# Altium footprint library Main Board.PcbLib: 34 footprints (part 1 of 3)
Each footprint in its own frame and in the unit in brackets; x right, y up, seen from the top. Pads: shape width x height; smd on the part's side, far side on the other; paste and mask are expansions set on the pad; w line width, h text height; cw(c..) or ccw(c..) is an arc to the next point about the centre after c.
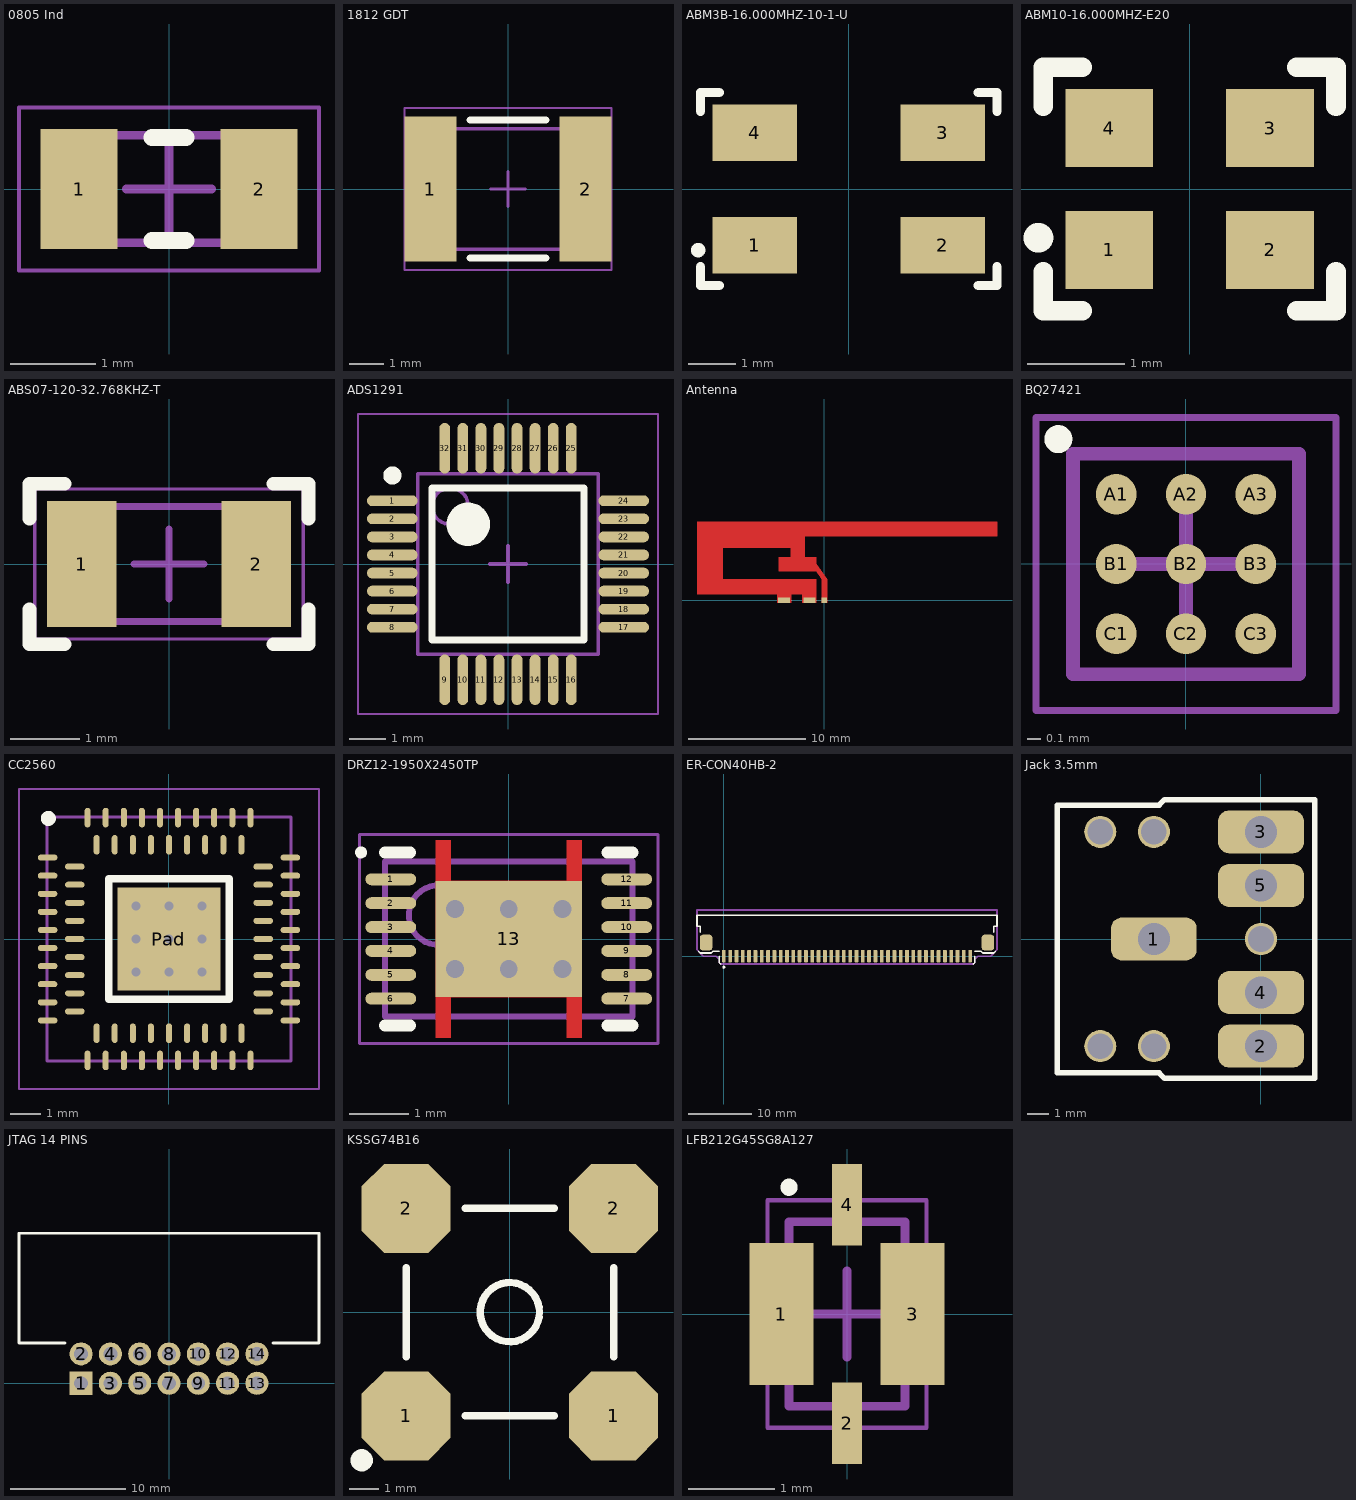
[diagram p0: the footprints below, top view; thin cyan lines are the x and y axes]

## 0805 Ind [mm] "Chip Capacitor, 2-Leads, Body 2,00x1,25mm, IPC Medium Density"
height 0.6
pads (2):
  rect 0.9x1.4 smd: 1(-1.05,0) 2(1.05,0)
Top Overlay:
  lines w0.2: -0.2,-0.6 0.2,-0.6 ; -0.2,0.6 0.2,0.6
Mechanical 13:
  lines w0.1: -1,-0.625 -1,0.625 1,0.625 1,-0.625 -1,-0.625
Mechanical 15:
  lines w0.05: -1.75,-0.95 -1.75,0.95 1.75,0.95 1.75,-0.95 -1.75,-0.95
  lines w0.1: -0.5,0 0.5,0 ; 0,-0.5 0,0.5
3D body: height 0.95, standoff 0, extent -1,-0.6 1,0.6

## 1812 GDT [mm] "GDT SMD"
height 3
pads (2):
  rect 1.5x4.2 smd: 1(-2.25,0) 2(2.25,0)
Top Overlay:
  lines w0.2: -1.1,-2 1.1,-2 ; -1.1,2 1.1,2
Mechanical 13:
  lines w0.1: -2.4,-1.75 2.4,-1.75 2.4,1.75 -2.4,1.75 -2.4,-1.75
Mechanical 15:
  lines w0.05: -3,-2.35 3,-2.35 3,2.35 -3,2.35 -3,-2.35
  lines w0.1: -0.5,0 0.5,0 ; 0,-0.5 0,0.5
3D body: height 3, standoff 0, extent 1.9,-1.75 2.4,1.75
3D body: height 3, standoff 0, extent -2.4,-1.75 -1.9,1.75
3D body: height 3, standoff 0, extent -1.9,-1.75 1.9,1.75

## ABM3B-16.000MHZ-10-1-U [mm] "Crystal 16 MHz"
height 1.1
pads (4):
  rect 1.8x1.2 smd: 1(-2,-1.2) 2(2,-1.2) 3(2,1.2) 4(-2,1.2)
Top Overlay:
  circle w0.254: c-3.2,-1.3 r0.025
  lines w0.2: -3.15,-1.65 -3.15,-2.05 -2.75,-2.05 ; -3.15,1.65 -3.15,2.05 -2.75,2.05 ; 2.75,-2.05 3.15,-2.05 3.15,-1.65 ; 2.75,2.05 3.15,2.05 3.15,1.65
3D body: height 0.8, standoff 0, extent -2.5,-1.6 2.5,1.6
3D body: height 1.1, standoff 0.8, extent -2.4,-1.5 2.4,1.5

## ABM10-16.000MHZ-E20 [mm] "Crystal 16 MHz"
height 1.1
pads (4):
  rect 0.9x0.8 smd: 1(-0.825,-0.625) 2(0.825,-0.625) 3(0.825,0.625) 4(-0.825,0.625)
Top Overlay:
  circle w0.254: c-1.55,-0.5 r0.025
  lines w0.2: -1.5,-0.85 -1.5,-1.25 -1.1,-1.25 ; -1.5,0.85 -1.5,1.25 -1.1,1.25 ; 1.1,-1.25 1.5,-1.25 1.5,-0.85 ; 1.1,1.25 1.5,1.25 1.5,0.85
3D body: height 0.5, standoff 0.3, extent -1.2,-0.95 1.2,0.95
3D body: height 0.3, standoff 0, extent -1.25,-1 1.25,1

## ABS07-120-32.768KHZ-T [mm] "DFN, 2-Leads, Body 1,50x3,20mm, Pitch 2,45mm, IPC Medium Density"
height 0.9
pads (2):
  rect 1x1.8 smd: 1(-1.25,0) 2(1.25,0)
Top Overlay:
  lines w0.2: -2,-0.65 -2,-1.15 -1.5,-1.15 ; -2,0.65 -2,1.15 -1.5,1.15 ; 1.5,-1.15 2,-1.15 2,-0.65 ; 1.5,1.15 2,1.15 2,0.65
Mechanical 13:
  lines w0.1: -1.675,-0.825 1.675,-0.825 1.675,0.825 -1.675,0.825 -1.675,-0.825
Mechanical 15:
  lines w0.05: -1.925,-1.075 1.925,-1.075 1.925,1.075 -1.925,1.075 -1.925,-1.075
  lines w0.1: -0.5,0 0.5,0 ; 0,-0.5 0,0.5
3D body: height 0.9, standoff 0, extent -1.675,-0.825 1.675,0.825

## ADS1291 [mm] "TSQFP, 32-Leads, Body 5,00x5,00mm, Pitch 0,50mm, IPC Medium Density"
height 1.2
pads (32):
  oval 1.4x0.3 smd: 1(-3.2,1.75) 2(-3.2,1.25) 3(-3.2,0.75) 4(-3.2,0.25) 5(-3.2,-0.25) 6(-3.2,-0.75) 7(-3.2,-1.25) 8(-3.2,-1.75) 17(3.2,-1.75) 18(3.2,-1.25) 19(3.2,-0.75) 20(3.2,-0.25) 21(3.2,0.25) 22(3.2,0.75) 23(3.2,1.25) 24(3.2,1.75)
  oval 0.3x1.4 smd: 9(-1.75,-3.2) 10(-1.25,-3.2) 11(-0.75,-3.2) 12(-0.25,-3.2) 13(0.25,-3.2) 14(0.75,-3.2) 15(1.25,-3.2) 16(1.75,-3.2) 25(1.75,3.2) 26(1.25,3.2) 27(0.75,3.2) 28(0.25,3.2) 29(-0.25,3.2) 30(-0.75,3.2) 31(-1.25,3.2) 32(-1.75,3.2)
Top Overlay:
  circle w0.6: c-1.1,1.1 r0.3
  circle w0.25: c-3.2,2.45 r0.125
  lines w0.2: -2.1,-2.1 2.1,-2.1 2.1,2.1 -2.1,2.1 -2.1,-2.1
Mechanical 13:
  circle w0.1: c-1.6,1.6 r0.5
  lines w0.1: -2.5,-2.5 2.5,-2.5 2.5,2.5 -2.5,2.5 -2.5,-2.5
Mechanical 15:
  lines w0.05: -4.15,-4.15 4.15,-4.15 4.15,4.15 -4.15,4.15 -4.15,-4.15
  lines w0.1: -0.5,0 0.5,0 ; 0,-0.5 0,0.5
3D body: height 1.2, standoff 0.25, extent -2.5,-2.5 2.5,2.5

## Antenna [mm] "2.4 GHz F-antenna"
pads (3):
  rect 0.46x0.46 smd paste-1: 1(0,0)
  rect 1x0.46 smd paste-1: 2(-3.45,0) 2(-1.275,0)
Top Layer:
  region: -10.86,0.505 -10.86,6.675 14.72,6.675 14.72,5.465 -1.68,5.465 -1.68,3.665 -0.68,3.665 -0.68,3.125 0.23,1.795 0.23,-0.235 -0.23,-0.235 -0.23,1.795 -0.68,2.455 -3.88,2.455 -3.88,3.665 -2.88,3.665 -2.88,4.465 -8.68,4.465 -8.68,1.795 -0.68,1.795 -0.68,-0.235 -1.878,-0.235 -1.878,0.505 -2.841,0.505 -2.841,-0.235 -4.027,-0.235 -4.027,0.505

## BATT [mm]
height 6
3D body: height 6, standoff 0, extent -17,0 17,42
3D body: height 6, standoff 0, extent -17,42 17,50

## BQ27421 [mm] "BGA, 9-Leads, Body 1,62x1,58mmx0,63mm, Pitch 0,50mm"
height 0.63
pads (9):
  round 0.29 smd mask+0.05: A1(-0.5,0.5) A2(0,0.5) A3(0.5,0.5) B1(-0.5,0) B2(0,0) B3(0.5,0) C1(-0.5,-0.5) C2(0,-0.5) C3(0.5,-0.5)
Top Overlay:
  circle w0.1: c-0.915,0.895 r0.05
Mechanical 13:
  lines w0.1: -0.81,-0.79 0.81,-0.79 0.81,0.79 -0.81,0.79 -0.81,-0.79
Mechanical 15:
  lines w0.05: -1.075,-1.05 1.075,-1.05 1.075,1.05 -1.075,1.05 -1.075,-1.05
  lines w0.1: -0.5,0 0.5,0 ; 0,-0.5 0,0.5
3D body: height 0.63, standoff 0.35, extent -0.81,-0.79 0.81,0.79

## CC2560 [mm] "Double Row QFN, 76-Leads, Body 8,00x8,00mm, Pitch 0,60mm, Thermal Pad 3,40x3,40mm, IPC Low Density"
height 0.9
pads (77):
  oval 0.65x0.2 smd mask+0.07: A1(-4.025,2.7) A2(-4.025,2.1) A3(-4.025,1.5) A4(-4.025,0.9) A5(-4.025,0.3) A6(-4.025,-0.3) A7(-4.025,-0.9) A8(-4.025,-1.5) A9(-4.025,-2.1) A10(-4.025,-2.7) A21(4.025,-2.7) A22(4.025,-2.1) A23(4.025,-1.5) A24(4.025,-0.9) A25(4.025,-0.3) A26(4.025,0.3) A27(4.025,0.9) A28(4.025,1.5) A29(4.025,2.1) A30(4.025,2.7) B1(-3.125,2.4) B2(-3.125,1.8) B3(-3.125,1.2) B4(-3.125,0.6) B5(-3.125,0) B6(-3.125,-0.6) B7(-3.125,-1.2) B8(-3.125,-1.8) B9(-3.125,-2.4) B19(3.125,-2.4) B20(3.125,-1.8) B21(3.125,-1.2) B22(3.125,-0.6) B23(3.125,0) B24(3.125,0.6) B25(3.125,1.2) B26(3.125,1.8) B27(3.125,2.4)
  oval 0.2x0.65 smd mask+0.07: A11(-2.7,-4.025) A12(-2.1,-4.025) A13(-1.5,-4.025) A14(-0.9,-4.025) A15(-0.3,-4.025) A16(0.3,-4.025) A17(0.9,-4.025) A18(1.5,-4.025) A19(2.1,-4.025) A20(2.7,-4.025) A31(2.7,4.025) A32(2.1,4.025) A33(1.5,4.025) A34(0.9,4.025) A35(0.3,4.025) A36(-0.3,4.025) A37(-0.9,4.025) A38(-1.5,4.025) A39(-2.1,4.025) A40(-2.7,4.025) B10(-2.4,-3.125) B11(-1.8,-3.125) B12(-1.2,-3.125) B13(-0.6,-3.125) B14(0,-3.125) B15(0.6,-3.125) B16(1.2,-3.125) B17(1.8,-3.125) B18(2.4,-3.125) B28(2.4,3.125) B29(1.8,3.125) B30(1.2,3.125) B31(0.6,3.125) B32(0,3.125) B33(-0.6,3.125) B34(-1.2,3.125) B35(-1.8,3.125) B36(-2.4,3.125)
  rect 3.4x3.4 smd mask+0.07: Pad(0,0)
via 1.1,1.1 diameter 0.5 hole 0.3
via 0,1.1 diameter 0.5 hole 0.3
via -1.1,1.1 diameter 0.5 hole 0.3
via 1.1,0 diameter 0.5 hole 0.3
via 0,0 diameter 0.5 hole 0.3
via -1.1,0 diameter 0.5 hole 0.3
via 1.1,-1.1 diameter 0.5 hole 0.3
via 0,-1.1 diameter 0.5 hole 0.3
via -1.1,-1.1 diameter 0.5 hole 0.3
Top Overlay:
  circle w0.25: c-4,4 r0.125
  lines w0.25: -2,-2 -2,2 2,2 2,-2 -2,-2
Mechanical 13:
  lines w0.1: -4.05,-4.05 -4.05,4.05 4.05,4.05 4.05,-4.05 -4.05,-4.05
Mechanical 15:
  lines w0.05: -4.975,-4.975 -4.975,4.975 4.975,4.975 4.975,-4.975 -4.975,-4.975
  lines w0.1: -0.5,0 0.5,0 ; 0,-0.5 0,0.5
3D body: height 0.9, standoff 0, extent -4.05,-4.05 4.05,4.05

## DRZ12-1950X2450TP [mm] "SON, 12-Leads, Body 4x2.5mm, Pitch 0.4mm, Thermal Pad 1.95x2.45mm, TI Recommended"
height 1
pads (13):
  oval 0.85x0.2 smd paste-0.1 mask+0.05: 1(-1.975,1) 2(-1.975,0.6) 3(-1.975,0.2) 4(-1.975,-0.2) 5(-1.975,-0.6) 6(-1.975,-1) 7(1.975,-1) 8(1.975,-0.6) 9(1.975,-0.2) 10(1.975,0.2) 11(1.975,0.6) 12(1.975,1)
  rect 2.45x1.95 smd paste-0.975 mask+0.05: 13(0,0)
via 0,-0.5 diameter 0.5 hole 0.3
via -0.9,-0.5 diameter 0.5 hole 0.3
via 0,0.5 diameter 0.5 hole 0.3
via -0.9,0.5 diameter 0.5 hole 0.3
via 0.9,0.5 diameter 0.5 hole 0.3
via 0.9,-0.5 diameter 0.5 hole 0.3
Top Layer:
  region: -1.225,-1.65 -1.225,1.65 -0.975,1.65 -0.975,0.975 0.975,0.975 0.975,1.65 1.225,1.65 1.225,-1.65 0.975,-1.65 0.975,-0.975 -0.975,-0.975 -0.975,-1.65
Top Overlay:
  circle w0.1: c-2.475,1.45 r0.05
  lines w0.2: -2.075,-1.45 -1.65,-1.45 ; -2.075,1.45 -1.65,1.45 ; 1.65,-1.45 2.075,-1.45 ; 1.65,1.45 2.075,1.45
Top Paste:
  region: 1.225,1.625 0.975,1.625 0.975,1.1 1.225,1.1
  region: 1.225,-1.1 0.975,-1.1 0.975,-1.625 1.225,-1.625
  rectangle: -1.225,-1.625 -0.975,-1.1
  rectangle: -1.225,1.1 -0.975,1.625
  rectangle: -1.1,-0.9 -0.1,-0.1
  region: 1.1,-0.1 0.1,-0.1 0.1,-0.9 1.1,-0.9
  region: 1.1,0.9 0.1,0.9 0.1,0.1 1.1,0.1
  rectangle: -1.1,0.1 -0.1,0.9
  lines w0.2: -2.275,-1 -1.675,-1 ; -2.275,-0.6 -1.675,-0.6 ; -2.275,-0.2 -1.675,-0.2 ; -2.275,0.2 -1.675,0.2 ; -2.275,0.6 -1.675,0.6 ; -2.275,1 -1.675,1 ; 1.675,-1 2.275,-1 ; 1.675,-0.6 2.275,-0.6 ; 1.675,-0.2 2.275,-0.2 ; 1.675,0.2 2.275,0.2 ; 1.675,0.6 2.275,0.6 ; 1.675,1 2.275,1
Mechanical 13:
  circle w0.1: c-1.175,0.4 r0.5
  lines w0.1: -2.075,-1.3 2.075,-1.3 2.075,1.3 -2.075,1.3 -2.075,-1.3
Mechanical 15:
  lines w0.05: -2.5,-1.75 2.5,-1.75 2.5,1.75 -2.5,1.75 -2.5,-1.75
  lines w0.1: -0.5,0 0.5,0 ; 0,-0.5 0,0.5
3D body: height 1, standoff -0.05, extent -2.075,-1.3 2.075,1.3

## ER-CON40HB-2 [mm] "40 Pins 1.0 mm Pitch SMD Horizontal Type ZIF Connector"
height 2.5
pads (42):
  rrect50% 0.6x2 smd: 1(0,0) 2(1,0) 3(2,0) 4(3,0) 5(4,0) 6(5,0) 7(6,0) 8(7,0) 9(8,0) 10(9,0) 11(10,0) 12(11,0) 13(12,0) 14(13,0) 15(14,0) 16(15,0) 17(16,0) 18(17,0) 19(18,0) 20(19,0) 21(20,0) 22(21,0) 23(22,0) 24(23,0) 25(24,0) 26(25,0) 27(26,0) 28(27,0) 29(28,0) 30(29,0) 31(30,0) 32(31,0) 33(32,0) 34(33,0) 35(34,0) 36(35,0) 37(36,0) 38(37,0) 39(38,0) 40(39,0)
  rrect50% 2x2.5 smd: ""(-2.8,2.15) ""(41.8,2.15)
Top Overlay:
  circle w0.25: c0,-1.75 r0.125
  lines w0.25: -4,0.75 -3.75,0.5 -2,0.5 -1.75,0.75 -0.75,0.75 ; -3.75,3.75 -3.75,4.75 -4.25,4.75 -4.25,6.5 43.25,6.5 43.25,4.75 42.75,4.75 42.75,3.75 ; -0.75,0 -0.75,-1 -0.5,-1.25 ; 39.5,-1.25 39.75,-1 39.75,0 ; 39.75,0.75 40.75,0.75 41,0.5 42.75,0.5 43,0.75
Mechanical 15:
  lines w0.25: -4.25,1 -4.25,7.3 43.25,7.3 43.25,1 42.25,0 40.25,0 39.75,-0.5 39.75,-1 39.5,-1.25 19.5,-1.25 -0.5,-1.25 -0.75,-1 -0.75,-0.5 -1.25,0 -3.25,0 -4.25,1
3D body: height 0.75, standoff 0.5, extent 38.85,0.6 39.15,1
3D body: height 0.75, standoff 0.5, extent 37.85,0.6 38.15,1
3D body: height 0.75, standoff 0.5, extent 36.85,0.6 37.15,1
3D body: height 0.75, standoff 0.5, extent 35.85,0.6 36.15,1
3D body: height 0.75, standoff 0.5, extent 34.85,0.6 35.15,1
3D body: height 0.75, standoff 0.5, extent 33.85,0.6 34.15,1
3D body: height 0.75, standoff 0.5, extent 32.85,0.6 33.15,1
3D body: height 0.75, standoff 0.5, extent 31.85,0.6 32.15,1
3D body: height 0.75, standoff 0.5, extent 30.85,0.6 31.15,1
3D body: height 0.75, standoff 0.5, extent 29.85,0.6 30.15,1
3D body: height 0.75, standoff 0.5, extent 28.85,0.6 29.15,1
3D body: height 0.75, standoff 0.5, extent 27.85,0.6 28.15,1
3D body: height 0.75, standoff 0.5, extent 26.85,0.6 27.15,1
3D body: height 0.75, standoff 0.5, extent 25.85,0.6 26.15,1
3D body: height 0.75, standoff 0.5, extent 24.85,0.6 25.15,1
3D body: height 0.75, standoff 0.5, extent 23.85,0.6 24.15,1
3D body: height 0.75, standoff 0.5, extent 22.85,0.6 23.15,1
3D body: height 0.75, standoff 0.5, extent 21.85,0.6 22.15,1
3D body: height 0.75, standoff 0.5, extent 20.85,0.6 21.15,1
3D body: height 0.75, standoff 0.5, extent 19.85,0.6 20.15,1
3D body: height 0.75, standoff 0.5, extent 18.85,0.6 19.15,1
3D body: height 0.75, standoff 0.5, extent 17.85,0.6 18.15,1
3D body: height 0.75, standoff 0.5, extent 16.85,0.6 17.15,1
3D body: height 0.75, standoff 0.5, extent 15.85,0.6 16.15,1
3D body: height 0.75, standoff 0.5, extent 14.85,0.6 15.15,1
3D body: height 0.75, standoff 0.5, extent 13.85,0.6 14.15,1
3D body: height 0.75, standoff 0.5, extent 12.85,0.6 13.15,1
3D body: height 0.75, standoff 0.5, extent 11.85,0.6 12.15,1
3D body: height 0.75, standoff 0.5, extent 10.85,0.6 11.15,1
3D body: height 0.75, standoff 0.5, extent 9.85,0.6 10.15,1
3D body: height 0.75, standoff 0.5, extent 8.85,0.6 9.15,1
3D body: height 0.75, standoff 0.5, extent 7.85,0.6 8.15,1
3D body: height 0.75, standoff 0.5, extent 6.85,0.6 7.15,1
3D body: height 0.75, standoff 0.5, extent 5.85,0.6 6.15,1
3D body: height 0.75, standoff 0.5, extent 4.85,0.6 5.15,1
3D body: height 0.75, standoff 0.5, extent 3.85,0.6 4.15,1
3D body: height 0.75, standoff 0.5, extent 2.85,0.6 3.15,1
3D body: height 0.75, standoff 0.5, extent 1.85,0.6 2.15,1
3D body: height 0.75, standoff 0.5, extent 0.85,0.6 1.15,1
3D body: height 2.5, standoff 1.25, extent -1,5 40,6.3
3D body: height 0.5, standoff 0, extent -1,5 40,6.3
3D body: height 0.5, standoff 0, extent 38.85,-0.5 39.15,1
3D body: height 0.5, standoff 0, extent 37.85,-0.5 38.15,1
3D body: height 0.5, standoff 0, extent 36.85,-0.5 37.15,1
3D body: height 0.5, standoff 0, extent 35.85,-0.5 36.15,1
3D body: height 0.5, standoff 0, extent 34.85,-0.5 35.15,1
3D body: height 0.5, standoff 0, extent 33.85,-0.5 34.15,1
3D body: height 0.5, standoff 0, extent 32.85,-0.5 33.15,1
3D body: height 0.5, standoff 0, extent 31.85,-0.5 32.15,1
3D body: height 0.5, standoff 0, extent 30.85,-0.5 31.15,1
3D body: height 0.5, standoff 0, extent 29.85,-0.5 30.15,1
3D body: height 0.5, standoff 0, extent 28.85,-0.5 29.15,1
3D body: height 0.5, standoff 0, extent 27.85,-0.5 28.15,1
3D body: height 0.5, standoff 0, extent 26.85,-0.5 27.15,1
3D body: height 0.5, standoff 0, extent 25.85,-0.5 26.15,1
3D body: height 0.5, standoff 0, extent 24.85,-0.5 25.15,1
3D body: height 0.5, standoff 0, extent 23.85,-0.5 24.15,1
3D body: height 0.5, standoff 0, extent 22.85,-0.5 23.15,1
3D body: height 0.5, standoff 0, extent 21.85,-0.5 22.15,1
3D body: height 0.5, standoff 0, extent 20.85,-0.5 21.15,1
3D body: height 0.5, standoff 0, extent 19.85,-0.5 20.15,1
3D body: height 0.5, standoff 0, extent 18.85,-0.5 19.15,1
3D body: height 0.5, standoff 0, extent 17.85,-0.5 18.15,1
3D body: height 0.5, standoff 0, extent 16.85,-0.5 17.15,1
3D body: height 0.5, standoff 0, extent 15.85,-0.5 16.15,1
3D body: height 0.5, standoff 0, extent 14.85,-0.5 15.15,1
3D body: height 0.5, standoff 0, extent 13.85,-0.5 14.15,1
3D body: height 0.5, standoff 0, extent 12.85,-0.5 13.15,1
3D body: height 0.5, standoff 0, extent 11.85,-0.5 12.15,1
3D body: height 0.5, standoff 0, extent 10.85,-0.5 11.15,1
3D body: height 0.5, standoff 0, extent 9.85,-0.5 10.15,1
3D body: height 0.5, standoff 0, extent 8.85,-0.5 9.15,1
3D body: height 0.5, standoff 0, extent 7.85,-0.5 8.15,1
3D body: height 0.5, standoff 0, extent 6.85,-0.5 7.15,1
3D body: height 0.5, standoff 0, extent 5.85,-0.5 6.15,1
3D body: height 0.5, standoff 0, extent 4.85,-0.5 5.15,1
3D body: height 0.5, standoff 0, extent 3.85,-0.5 4.15,1
3D body: height 0.5, standoff 0, extent 2.85,-0.5 3.15,1
3D body: height 0.5, standoff 0, extent 1.85,-0.5 2.15,1
3D body: height 0.5, standoff 0, extent 0.85,-0.5 1.15,1
3D body: height 0.5, standoff 0, extent -0.15,-0.5 0.15,1
3D body: height 2.5, standoff 0.15, extent -3.505,0.995 42.505,5
3D body: height 2.5, standoff 0, extent -4,5 -1,6.3
3D body: height 2.5, standoff 0, extent 40,5 43,6.3
3D body: height 0.75, standoff 0.5, extent -0.15,0.6 0.15,1
3D body: height 0.15, standoff 0, extent -3.755,1.245 -2,3.25
3D body: height 0.15, standoff 0, extent 41,1.245 42.755,3.25

## Jack 3.5mm [mm]
pads (10):
  rrect50% 4x2 hole 1.5: 1(-5,0) 2(0,-5) 3(0,5) 4(0,-2.5) 5(0,2.5)
  round 1.5 hole 1.2 unplated: ""(-7.5,-5) ""(-7.5,5) ""(-5,-5) ""(-5,5) ""(0,0)
Top Overlay:
  lines w0.254: -9.5,-6.25 -4.75,-6.25 -4.5,-6.5 2.5,-6.5 2.5,6.5 -4.5,6.5 -4.75,6.25 -7.25,6.25 -9.5,6.25 -9.5,4.5 -9.5,-4.5 -9.5,-6.25

## JTAG 14 PINS [mm] "7X2 PIN Header 90º JTAG"
height 9.1
pads (14):
  rect 2x2 hole 1.2: 1(-7.62,0)
  round 2 hole 1.2: 2(-7.62,2.54) 3(-5.08,0) 4(-5.08,2.54) 5(-2.54,0) 6(-2.54,2.54) 7(0,0) 8(0,2.54) 9(2.54,0) 10(2.54,2.54) 11(5.08,0) 12(5.08,2.54) 13(7.62,0) 14(7.62,2.54)
Top Overlay:
  lines w0.25: -9,3.5 -13,3.5 -13,13 13,13 13,3.5 9,3.5
3D body: height 5.75, standoff 5.25, extent 7.37,-0.25 7.87,11.29
3D body: height 3.25, standoff 2.75, extent 7.37,2.29 7.87,11.29
3D body: height 3.25, standoff -3, extent 7.37,2.29 7.87,2.79
3D body: height 5.75, standoff -3, extent 7.37,-0.25 7.87,0.25
3D body: height 5.75, standoff 5.25, extent 4.83,-0.25 5.33,11.29
3D body: height 3.25, standoff 2.75, extent 4.83,2.29 5.33,11.29
3D body: height 3.25, standoff -3, extent 4.83,2.29 5.33,2.79
3D body: height 5.75, standoff -3, extent 4.83,-0.25 5.33,0.25
3D body: height 5.75, standoff 5.25, extent 2.29,-0.25 2.79,11.29
3D body: height 3.25, standoff 2.75, extent 2.29,2.29 2.79,11.29
3D body: height 3.25, standoff -3, extent 2.29,2.29 2.79,2.79
3D body: height 5.75, standoff -3, extent 2.29,-0.25 2.79,0.25
3D body: height 5.75, standoff 5.25, extent -0.25,-0.25 0.25,11.29
3D body: height 3.25, standoff 2.75, extent -0.25,2.29 0.25,11.29
3D body: height 3.25, standoff -3, extent -0.25,2.29 0.25,2.79
3D body: height 5.75, standoff -3, extent -0.25,-0.25 0.25,0.25
3D body: height 5.75, standoff 5.25, extent -2.79,-0.25 -2.29,11.29
3D body: height 3.25, standoff 2.75, extent -2.79,2.29 -2.29,11.29
3D body: height 3.25, standoff -3, extent -2.79,2.29 -2.29,2.79
3D body: height 5.75, standoff -3, extent -2.79,-0.25 -2.29,0.25
3D body: height 5.75, standoff 5.25, extent -5.33,-0.25 -4.83,11.29
3D body: height 3.25, standoff 2.75, extent -5.33,2.29 -4.83,11.29
3D body: height 3.25, standoff -3, extent -5.33,2.29 -4.83,2.79
3D body: height 5.75, standoff -3, extent -5.33,-0.25 -4.83,0.25
3D body: height 9.25, standoff 7.75, extent -12.87,3.75 12.87,13
3D body: height 7.75, standoff 1.5, extent 11.37,3.75 12.87,13
3D body: height 7.75, standoff 1.5, extent -12.87,3.75 -11.37,13
3D body: height 1.5, standoff 0, extent -12.87,3.75 12.87,13
3D body: height 7.75, standoff 1.5, extent -11.37,3.75 11.37,5.25
3D body: height 5.75, standoff -3, extent -7.87,-0.25 -7.37,0.25
3D body: height 3.25, standoff -3, extent -7.87,2.29 -7.37,2.79
3D body: height 3.25, standoff 2.75, extent -7.87,2.29 -7.37,11.29
3D body: height 5.75, standoff 5.25, extent -7.87,-0.25 -7.37,11.29

## KSSG74B16 [mm] "Magnetic Buzzer"
height 3
pads (4):
  oct 3x3 smd: 1(-3.5,-3.5) 1(3.5,-3.5) 2(-3.5,3.5) 2(3.5,3.5)
Top Overlay:
  circle w0.25: c0,0 r1
  circle w0.5: c-5,-5 r0.125
  lines w0.25: -3.5,-1.5 -3.5,1.5 ; -1.5,-3.5 1.5,-3.5 ; -1.5,3.5 1.5,3.5 ; 3.5,-1.5 3.5,1.5
3D body: height 3, standoff 0, extent -4.25,-4.25 4.25,4.25
3D body: height 1.5, standoff 0, extent -0.992,-0.998 1,0.998

## LFB212G45SG8A127 [mm] "DFN, 4-Leads, Body 2,00x1,25mm, Pitch 1,50mm, IPC Medium Density"
height 1
pads (4):
  rect 0.75x1.65 smd mask+0.05: 1(-0.762,0) 3(0.762,0)
  rect 0.35x0.95 smd mask+0.05: 2(0,-1.27) 4(0,1.27)
Top Overlay:
  circle w0.1: c-0.675,1.475 r0.05
Mechanical 13:
  lines w0.1: -0.675,-1.075 0.675,-1.075 0.675,1.075 -0.675,1.075 -0.675,-1.075
Mechanical 15:
  lines w0.05: -0.925,-1.325 0.925,-1.325 0.925,1.325 -0.925,1.325 -0.925,-1.325
  lines w0.1: -0.5,0 0.5,0 ; 0,-0.5 0,0.5
3D body: height 1, standoff 0, extent -0.675,-1.075 0.675,1.075